# Altium schematic symbol library 2019-09-29_07-03-14.SchLib: 2 symbols
Pins are listed as number, name and electrical type; pins without a type are passive.

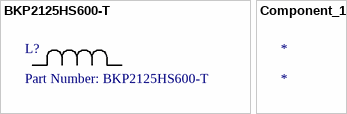
[diagram p0: symbols BKP2125HS600-T to Component_1]

## BKP2125HS600-T
designator L?, comment Part Number: BKP2125HS600-T
No Description Available; Vendor: Taiyo Yuden; Built_By: EMA_Colton; Type: DEV; Manufacturer_Part_Number: BKP2125HS600-T; Copyright: Copyright (C) 2018 Accelerated Designs. All rights reserved; RefDes: RefDes; Value: Value
footprint BKP2125
pins: 1, 2

## Component_1
designator *